# Altium footprint library bga.PcbLib: 1 footprints
Each footprint in its own frame and in the unit in brackets; x right, y up, seen from the top. Pads: shape width x height; smd on the part's side, far side on the other; paste and mask are expansions set on the pad; w line width, h text height; cw(c..) or ccw(c..) is an arc to the next point about the centre after c.
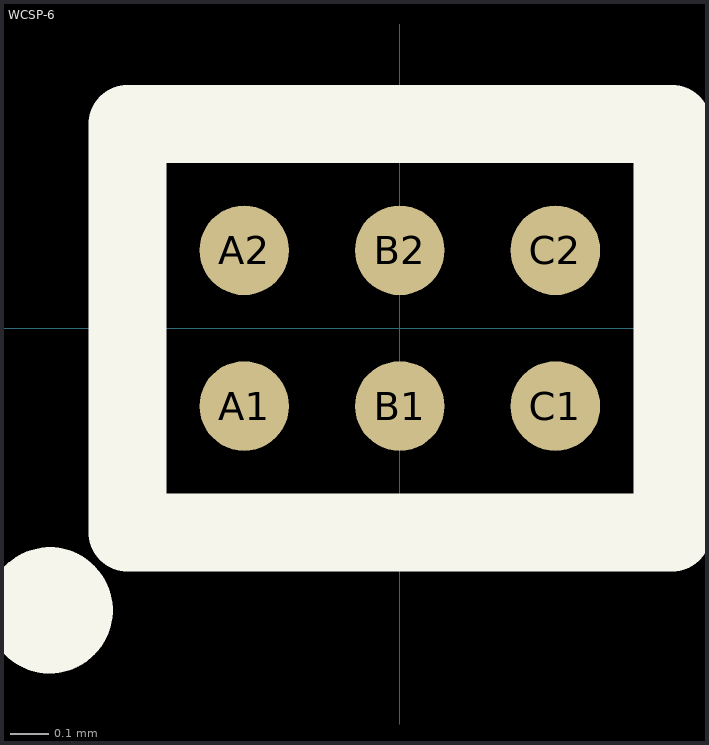
[diagram p0: the footprint, top view; thin cyan lines are the x and y axes]

## WCSP-6 [mm]
pads (6):
  round 0.23 smd mask+0.05: A1(-0.4,-0.2) A2(-0.4,0.2) B1(0,-0.2) B2(0,0.2) C1(0.4,-0.2) C2(0.4,0.2)
Top Overlay:
  circle w0.254: c-0.9,-0.725 r0.035
  lines w0.2: -0.7,-0.525 0.7,-0.525 0.7,0.525 -0.7,0.525 -0.7,-0.525
3D body "User Library-WCSP6-YFF.SLDPRT": height 0.63, standoff 0, extent -0.613,-0.444 0.613,0.44